# Altium footprint library resistor_smd.PcbLib: 28 footprints (part 1 of 2)
Each footprint in its own frame and in the unit in brackets; x right, y up, seen from the top. Pads: shape width x height; smd on the part's side, far side on the other; paste and mask are expansions set on the pad; w line width, h text height; cw(c..) or ccw(c..) is an arc to the next point about the centre after c.
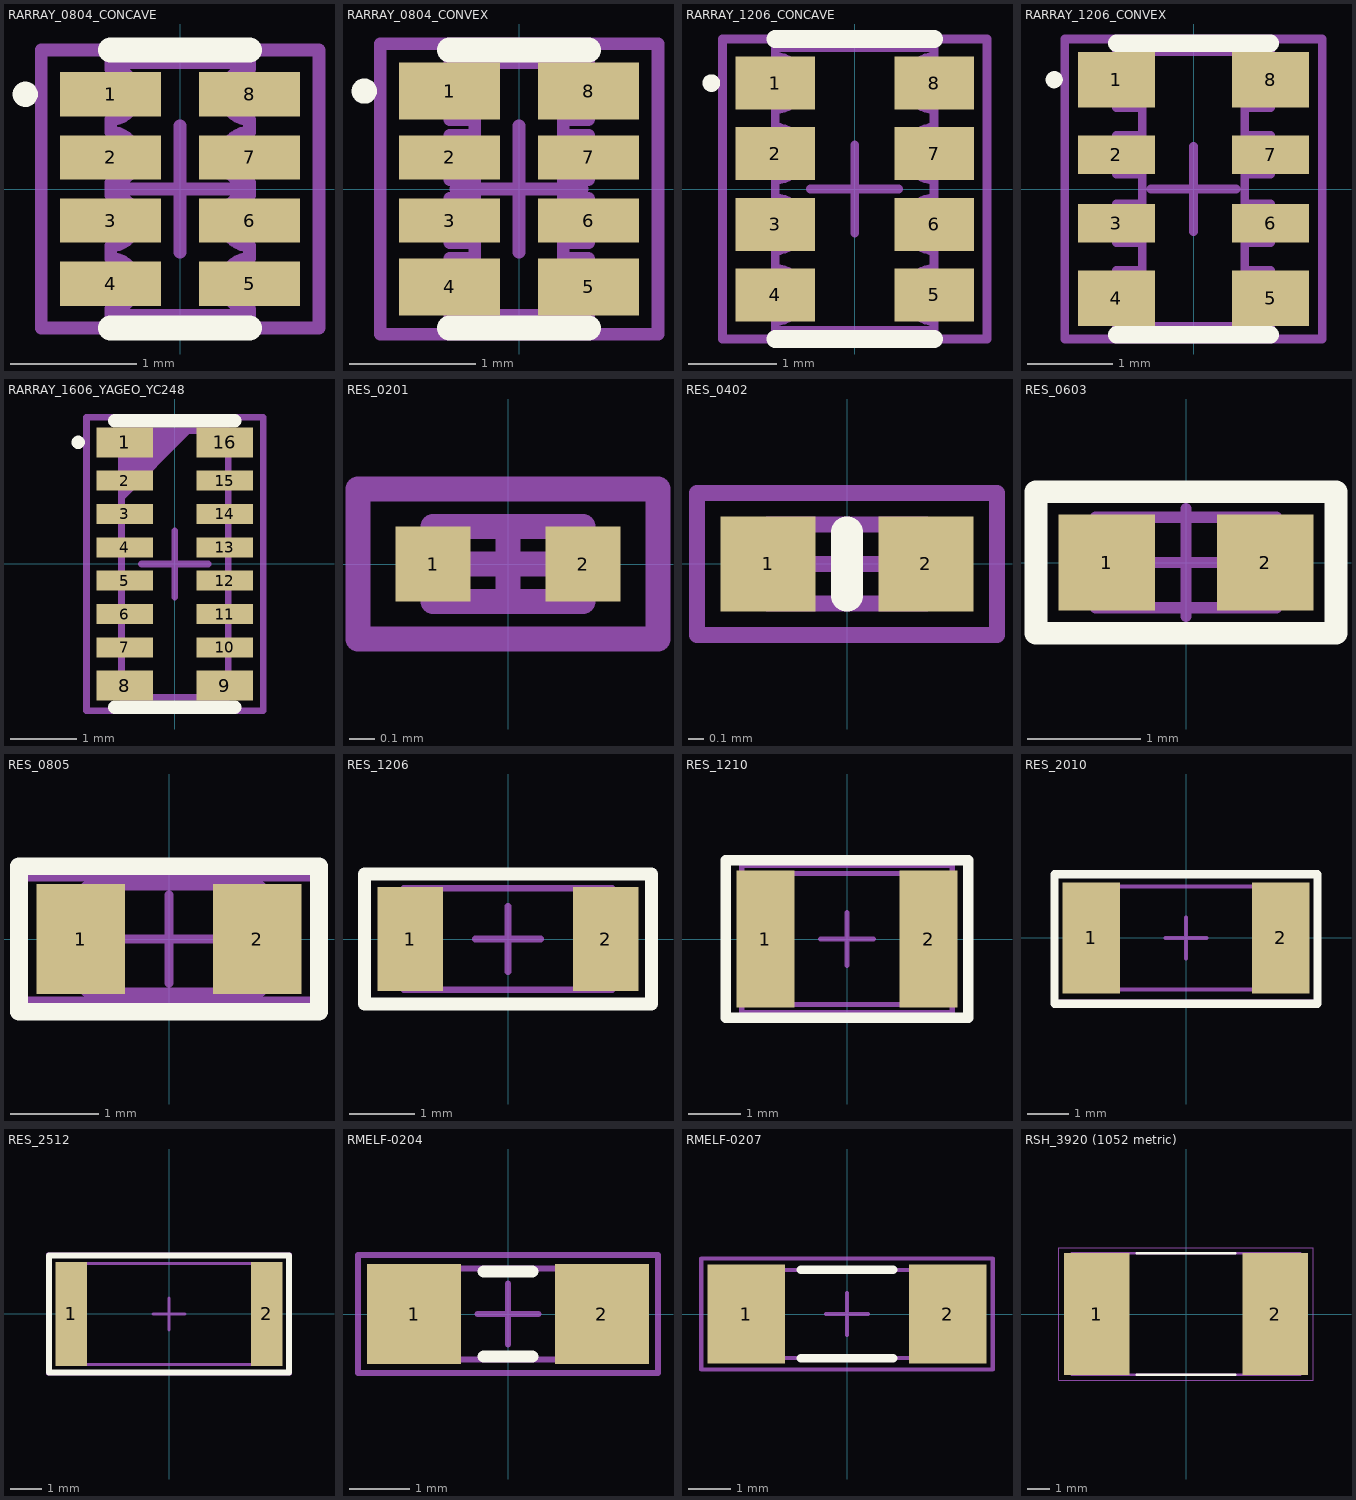
[diagram p0: the footprints below, top view; thin cyan lines are the x and y axes]

## RARRAY_0804_CONCAVE [mm] "Chip Array, Concave, 8-Leads, Pitch 0,50mm,  Body 2,00x1,00mm"
height 0.45
pads (8):
  rect 0.8x0.35 smd: 1(-0.55,0.75) 2(-0.55,0.25) 3(-0.55,-0.25) 4(-0.55,-0.75) 5(0.55,-0.75) 6(0.55,-0.25) 7(0.55,0.25) 8(0.55,0.75)
Top Overlay:
  circle w0.1: c-1.225,0.75 r0.05
  lines w0.2: -0.55,-1.1 0.55,-1.1 ; -0.55,1.1 0.55,1.1
Mechanical 1:
  lines w0.1: -0.55,-1 -0.55,-0.95 ccw(c-0.55,-0.75) -0.55,-0.55 -0.55,-0.45 ccw(c-0.55,-0.25) -0.55,-0.05 -0.55,0.05 ccw(c-0.55,0.25) -0.55,0.45 -0.55,0.55 ccw(c-0.55,0.75) -0.55,0.95 -0.55,1 0.55,1 0.55,0.95 ccw(c0.55,0.75) 0.55,0.55 0.55,0.45 ccw(c0.55,0.25) 0.55,0.05 0.55,-0.05 ccw(c0.55,-0.25) 0.55,-0.45 0.55,-0.55 ccw(c0.55,-0.75) 0.55,-0.95 0.55,-1 -0.55,-1
Mechanical 15:
  lines w0.1: -0.5,0 0.5,0 ; 0,-0.5 0,0.5 ; -1.1,-1.1 -1.1,1.1 1.1,1.1 1.1,-1.1 -1.1,-1.1
3D body "CAF-80P160X100-8N.step": height 0.45, standoff 0, extent -0.55,-1 0.55,1

## RARRAY_0804_CONVEX [mm] "Chip Array, Convex, 8-Leads, Pitch 0,50mm,  Body 2,00x1,00mm"
height 0.35
pads (8):
  rect 0.8x0.45 smd: 1(-0.55,0.775) 4(-0.55,-0.775) 5(0.55,-0.775) 8(0.55,0.775)
  rect 0.8x0.35 smd: 2(-0.55,0.25) 3(-0.55,-0.25) 6(0.55,-0.25) 7(0.55,0.25)
Top Overlay:
  circle w0.1: c-1.225,0.775 r0.05
  lines w0.2: -0.55,-1.1 0.55,-1.1 ; -0.55,1.1 0.55,1.1
Mechanical 1:
  lines w0.1: -0.55,-1 -0.55,-0.55 -0.35,-0.55 -0.35,-0.425 -0.55,-0.425 -0.55,-0.075 -0.35,-0.075 -0.35,0.075 -0.55,0.075 -0.55,0.425 -0.35,0.425 -0.35,0.55 -0.55,0.55 -0.55,1 0.55,1 0.55,0.55 0.35,0.55 0.35,0.425 0.55,0.425 0.55,0.075 0.35,0.075 0.35,-0.075 0.55,-0.075 0.55,-0.425 0.35,-0.425 0.35,-0.55 0.55,-0.55 0.55,-1 -0.55,-1
Mechanical 15:
  lines w0.1: -0.5,0 0.5,0 ; 0,-0.5 0,0.5 ; -1.1,-1.15 -1.1,1.15 1.1,1.15 1.1,-1.15 -1.1,-1.15
3D body "CAF-80P160X100-8N.step": height 0.35, standoff 0, extent -0.55,-1 0.55,1

## RARRAY_1206_CONCAVE [mm] "Chip Array, Concave, 8-Leads, Pitch 0,80mm,  Body 3,20x1,60mm"
height 0.6
pads (8):
  rect 0.9x0.6 smd: 1(-0.9,1.2) 2(-0.9,0.4) 3(-0.9,-0.4) 4(-0.9,-1.2) 5(0.9,-1.2) 6(0.9,-0.4) 7(0.9,0.4) 8(0.9,1.2)
Top Overlay:
  circle w0.1: c-1.625,1.2 r0.05
  lines w0.2: -0.9,-1.7 0.9,-1.7 ; -0.9,1.7 0.9,1.7
Mechanical 1:
  lines w0.1: -0.9,-1.6 0.9,-1.6 0.9,-1.5 cw(c0.9,-1.2) 0.9,-0.9 0.9,-0.7 cw(c0.9,-0.4) 0.9,-0.1 0.9,0.1 cw(c0.9,0.4) 0.9,0.7 0.9,0.9 cw(c0.9,1.2) 0.9,1.5 0.9,1.6 -0.9,1.6 -0.9,1.5 cw(c-0.9,1.2) -0.9,0.9 -0.9,0.7 cw(c-0.9,0.4) -0.9,0.1 -0.9,-0.1 cw(c-0.9,-0.4) -0.9,-0.7 -0.9,-0.9 cw(c-0.9,-1.2) -0.9,-1.5 -0.9,-1.6
Mechanical 15:
  lines w0.1: -0.5,0 0.5,0 ; 0,-0.5 0,0.5 ; -1.5,-1.7 1.5,-1.7 1.5,1.7 -1.5,1.7 -1.5,-1.7
3D body "CAF-80P160X100-8N.step": height 0.6, standoff 0, extent -0.85,-1.6 0.85,1.6

## RARRAY_1206_CONVEX [mm] "Chip Array, Convex, 8-Leads, Pitch 0,80mm,  Body 3,20x1,60mm"
height 0.5
pads (8):
  rect 0.9x0.65 smd: 1(-0.9,1.275) 4(-0.9,-1.275) 5(0.9,-1.275) 8(0.9,1.275)
  rect 0.9x0.45 smd: 2(-0.9,0.4) 3(-0.9,-0.4) 6(0.9,-0.4) 7(0.9,0.4)
Top Overlay:
  circle w0.1: c-1.625,1.275 r0.05
  lines w0.2: -0.9,-1.7 0.9,-1.7 ; -0.9,1.7 0.9,1.7
Mechanical 1:
  lines w0.1: -0.9,-1.6 -0.9,-0.95 -0.6,-0.95 -0.6,-0.625 -0.9,-0.625 -0.9,-0.175 -0.6,-0.175 -0.6,0.175 -0.9,0.175 -0.9,0.625 -0.6,0.625 -0.6,0.95 -0.9,0.95 -0.9,1.6 0.9,1.6 0.9,0.95 0.6,0.95 0.6,0.625 0.9,0.625 0.9,0.175 0.6,0.175 0.6,-0.175 0.9,-0.175 0.9,-0.625 0.6,-0.625 0.6,-0.95 0.9,-0.95 0.9,-1.6 -0.9,-1.6
Mechanical 15:
  lines w0.1: -0.5,0 0.5,0 ; 0,-0.5 0,0.5 ; -1.5,-1.75 -1.5,1.75 1.5,1.75 1.5,-1.75 -1.5,-1.75
3D body "CAF-80P160X100-8N.step": height 0.5, standoff 0, extent -0.85,-1.6 0.85,1.6

## RARRAY_1606_YAGEO_YC248 [mm] "Resistor, Chip Array, 0.50mm pitch; 16 pin, 1.60mm W X 4mm L X 0.55mm H, YC248 Serie"
height 0.55
pads (16):
  rect 0.85x0.45 smd: 1(-0.75,1.825) 8(-0.75,-1.825) 9(0.75,-1.825) 16(0.75,1.825)
  rect 0.85x0.3 smd: 2(-0.75,1.25) 3(-0.75,0.75) 4(-0.75,0.25) 5(-0.75,-0.25) 6(-0.75,-0.75) 7(-0.75,-1.25) 10(0.75,-1.25) 11(0.75,-0.75) 12(0.75,-0.25) 13(0.75,0.25) 14(0.75,0.75) 15(0.75,1.25)
Top Overlay:
  circle w0.1: c-1.45,1.825 r0.05
  lines w0.2: -0.9,-2.15 0.9,-2.15 ; -0.9,2.15 0.9,2.15
Mechanical 1:
  lines w0.1: -0.8,-2 -0.8,2 0.8,2 0.8,-2 -0.8,-2 ; -0.8,1 0.2,2 -0.8,1 ; -0.8,1.1 0.1,2 -0.8,1.1 ; -0.8,1.2 0,2 -0.8,1.2 ; -0.8,1.3 -0.1,2 -0.8,1.3 ; -0.8,1.4 -0.2,2 -0.8,1.4 ; -0.8,1.5 -0.3,2 -0.8,1.5 ; -0.8,1.6 -0.4,2 -0.8,1.6 ; -0.8,1.7 -0.5,2 -0.8,1.7 ; -0.8,1.8 -0.6,2 -0.8,1.8 ; -0.8,1.9 -0.7,2 -0.8,1.9
Mechanical 15:
  lines w0.1: -0.5,0 0.5,0 ; 0,-0.5 0,0.5 ; -1.325,-2.2 -1.325,2.2 1.325,2.2 1.325,-2.2 -1.325,-2.2
3D body "RN_YAGEO_YC248.stp": height 0.45, standoff 0, extent -0.8,-2 0.8,2

## RES_0201 [mm]
height 0.23
pads (2):
  rect 0.3x0.3 smd: 1(-0.3,0) 2(0.3,0)
Mechanical 1:
  lines w0.1: -0.3,-0.15 0.3,-0.15 0.3,0.15 -0.3,0.15 -0.3,-0.15
Mechanical 15:
  lines w0.1: -0.15,0 0.15,0 ; 0,-0.15 0,0.15 ; -0.6,-0.3 0.6,-0.3 0.6,0.3 -0.6,0.3 -0.6,-0.3
3D body "chip_0201_r.STEP": height 0.22, standoff -0.02, extent -0.3,-0.15 0.3,0.15

## RES_0402 [mm]
height 0.35
pads (2):
  rect 0.6x0.6 smd: 1(-0.5,0) 2(0.5,0)
Top Overlay:
  lines w0.2: 0,-0.2 0,0.2
Mechanical 1:
  lines w0.1: -0.5,-0.25 -0.5,0.25 0.5,0.25 0.5,-0.25 -0.5,-0.25
Mechanical 15:
  lines w0.1: -0.25,0 0.25,0 ; 0,-0.25 0,0.25 ; -0.95,-0.45 -0.95,0.45 0.95,0.45 0.95,-0.45 -0.95,-0.45
3D body "chip_0402_r.STEP": height 0.34, standoff -0.02, extent -0.525,-0.25 0.475,0.25

## RES_0603 [mm]
height 0.45
pads (2):
  rect 0.85x0.85 smd: 1(-0.7,0) 2(0.7,0)
Top Overlay:
  lines w0.2: -1.325,-0.625 1.325,-0.625 1.325,0.625 -1.325,0.625 -1.325,-0.625
Mechanical 1:
  lines w0.1: -0.8,-0.4 0.8,-0.4 0.8,0.4 -0.8,0.4 -0.8,-0.4
Mechanical 15:
  lines w0.1: -0.475,0 0.475,0 ; 0,-0.475 0,0.475 ; -1.325,-0.65 -1.325,0.625 1.325,0.625 1.325,-0.65 -1.325,-0.65
3D body "chip_0603_r.STEP": height 0.44, standoff -0.02, extent -0.8,-0.4 0.8,0.4

## RES_0805 [mm]
height 0.45
pads (2):
  rect 1x1.25 smd: 1(-1,0) 2(1,0)
Top Overlay:
  lines w0.2: -1.7,-0.825 -1.7,0.825 1.7,0.825 1.7,-0.825 -1.7,-0.825
Mechanical 1:
  lines w0.1: -0.949,-0.6 -0.949,0.6 1.05,0.6 1.05,-0.6 -0.949,-0.6
Mechanical 15:
  lines w0.1: -0.5,0 0.5,0 ; 0,-0.5 0,0.5 ; -1.675,-0.7 1.675,-0.7 1.675,0.7 -1.675,0.7 -1.675,-0.7
3D body "chip_0805_r.STEP": height 0.44, standoff -0.02, extent -1,-0.6 1,0.6

## RES_1206 [mm]
height 0.6
pads (2):
  rect 1x1.6 smd: 1(-1.5,0) 2(1.5,0)
Top Overlay:
  lines w0.2: -2.2,-1 2.2,-1 2.2,1 -2.2,1 -2.2,-1
Mechanical 1:
  lines w0.1: -1.6,-0.775 1.6,-0.775 1.6,0.775 -1.6,0.775 -1.6,-0.775
Mechanical 15:
  lines w0.1: -0.5,0 0.5,0 ; 0,-0.5 0,0.5 ; -2.2,-1 -2.2,1 2.2,1 2.2,-1 -2.2,-1
3D body "chip_1206_r.STEP": height 0.47, standoff -0.03, extent -1.65,-0.8 1.55,0.8

## RES_1210 [mm]
pads (2):
  rect 1.1x2.6 smd: 1(-1.55,0) 2(1.55,0)
Top Overlay:
  lines w0.2: -2.3,-1.5 2.3,-1.5 2.3,1.5 -2.3,1.5 -2.3,-1.5
Mechanical 1:
  lines w0.1: -2,-1.244 -2,1.245 2,1.245 2,-1.244 -2,-1.244
Mechanical 15:
  lines w0.1: -0.5,0 0.5,0 ; 0,-0.5 0,0.5 ; -2,-1.4 2,-1.4 2,1.4 -2,1.4 -2,-1.4
3D body "User Library-R_1210.STEP": height 0.6, standoff 0, extent -1.6,-1.25 1.6,1.25

## RES_2010 [mm]
height 0.55
pads (2):
  rect 1.4x2.7 smd: 1(-2.3,0) 2(2.3,0)
Top Overlay:
  lines w0.2: -3.2,-1.6 3.2,-1.6 3.2,1.55 -3.2,1.55 -3.2,-1.6
Mechanical 1:
  lines w0.1: -2.5,-1.25 2.5,-1.25 2.5,1.25 -2.5,1.25 -2.5,-1.25
Mechanical 15:
  lines w0.1: -0.5,0 0.5,0 ; 0,-0.5 0,0.5 ; -3.2,-1.55 3.2,-1.55 3.2,1.55 -3.2,1.55 -3.2,-1.55
3D body "User Library-R_2010.STEP": height 0.6, standoff 0, extent -2.5,-1.25 2.5,1.25

## RES_2512 [mm]
height 0.55
pads (2):
  rect 1x3.3 smd: 1(-3.1,0) 2(3.1,0)
Top Overlay:
  lines w0.2: -3.8,-1.85 -3.8,1.85 3.8,1.85 3.8,-1.85 -3.8,-1.85
Mechanical 1:
  lines w0.1: -3.175,-1.6 -3.175,1.6 3.175,1.6 3.175,-1.6 -3.175,-1.6
Mechanical 15:
  lines w0.1: -0.5,0 0.5,0 ; 0,-0.5 0,0.5 ; -3.85,-1.9 3.85,-1.9 3.85,1.9 -3.85,1.9 -3.85,-1.9
3D body "chip_2512_r.STEP": height 0.52, standoff -0.04, extent -3.175,-1.6 3.175,1.6

## RMELF-0204 [mm] "MELF Resistor, 2-Leads, Body 3.6x1.4mm, IPC Medium Density"
height 1.5
pads (2):
  rect 1.55x1.65 smd: 1(-1.55,0) 2(1.55,0)
Top Overlay:
  lines w0.2: -0.4,-0.7 0.4,-0.7 ; -0.4,0.7 0.4,0.7
Mechanical 1:
  lines w0.1: -1.9,-0.75 1.9,-0.75 1.9,0.75 -1.9,0.75 -1.9,-0.75
Mechanical 15:
  lines w0.1: -0.5,0 0.5,0 ; 0,-0.5 0,0.5 ; -2.475,-0.975 -2.475,0.975 2.475,0.975 2.475,-0.975 -2.475,-0.975
3D body "RESMELF3614N.stp": height 1.5, standoff 0, extent -1.9,-0.75 1.9,0.75

## RMELF-0207 [mm] "MELF Resistor, 2-Leads, Body 5.7x2.1mm, IPC Medium Density"
height 2.2
pads (2):
  rect 1.85x2.35 smd: 1(-2.4,0) 2(2.4,0)
Top Overlay:
  lines w0.2: -1.1,-1.05 1.1,-1.05 ; -1.1,1.05 1.1,1.05
Mechanical 1:
  lines w0.1: -2.85,-1.05 2.85,-1.05 2.85,1.05 -2.85,1.05 -2.85,-1.05
Mechanical 15:
  lines w0.1: -0.5,0 0.5,0 ; 0,-0.5 0,0.5 ; -3.475,-1.325 -3.475,1.325 3.475,1.325 3.475,-1.325 -3.475,-1.325
3D body "RESMELF5822N.stp": height 2.3, standoff 0.1, extent -2.9,-1.1 2.9,1.1

## RSH_3920 (1052 metric) [mm]
pads (2):
  rect 2.96x5.51 smd: 1(-4.027,0) 2(4.027,0)
Top Overlay:
  lines w0.127: -2.23,-2.75 2.23,-2.75 ; -2.23,2.75 2.23,2.75
Mechanical 13:
  lines w0.127: -5.15,-2.75 5.15,-2.75 5.15,2.75 -5.15,2.75 -5.15,-2.75
Mechanical 15:
  lines w0.05: -5.755,-3.005 5.755,-3.005 5.755,3.005 -5.755,3.005 -5.755,-3.005
3D body "step_temp.STEP": height 2, standoff 0, extent -5,-2.6 5,2.6